# Altium footprint library HTSSOP.PcbLib: 2 footprints
Each footprint in its own frame and in the unit in brackets; x right, y up, seen from the top. Pads: shape width x height; smd on the part's side, far side on the other; paste and mask are expansions set on the pad; w line width, h text height; cw(c..) or ccw(c..) is an arc to the next point about the centre after c.
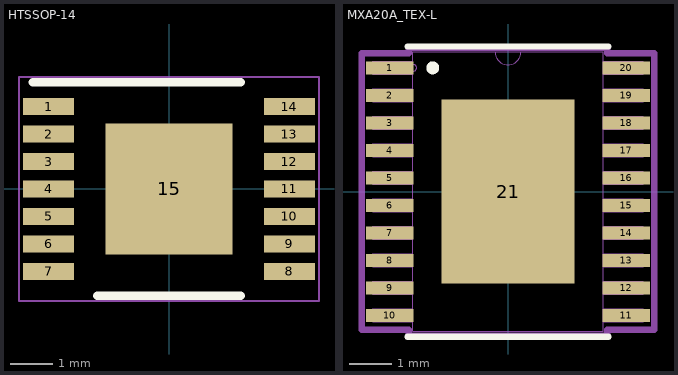
[diagram p0: the footprints below, top view; thin cyan lines are the x and y axes]

## HTSSOP-14 [mm]
pads (15):
  rect 1.2x0.4 smd paste+0 mask+0.051: 1(-2.85,1.95) 2(-2.85,1.3) 3(-2.85,0.65) 4(-2.85,0) 5(-2.85,-0.65) 6(-2.85,-1.3) 7(-2.85,-1.95) 8(2.85,-1.95) 9(2.85,-1.3) 10(2.85,-0.65) 11(2.85,0) 12(2.85,0.65) 13(2.85,1.3) 14(2.85,1.95)
  rect 3x3.1 smd paste+0 mask+0.051: 15(0,0)
Top Overlay:
  lines w0.2: -3.225,2.525 1.7,2.525 ; -1.7,-2.525 1.7,-2.525
Mechanical 15:
  lines w0.05: -3.55,-2.65 -3.55,2.65 3.55,2.65 3.55,-2.65 -3.55,-2.65
  lines w0.1: -0.5,0 0.5,0 ; 0,-0.5 0,0.5
3D body: height 0.25, standoff 0, extent 0,0 0.254,0.254
3D body "HTSSOP-14.stp": height 1, standoff 0, extent -3.21,-2.5 3.211,2.5

## MXA20A_TEX-L [mil]
pads (21):
  rect 44x12 smd: 1(-110,115.16) 2(-110,89.57) 3(-110,63.98) 4(-110,38.39) 5(-110,12.8) 6(-110,-12.8) 7(-110,-38.39) 8(-110,-63.98) 9(-110,-89.57) 10(-110,-115.16) 11(110,-115.16) 12(110,-89.57) 13(110,-63.98) 14(110,-38.39) 15(110,-12.8) 16(110,12.8) 17(110,38.39) 18(110,63.98) 19(110,89.57) 20(110,115.16)
  rect 124x171 smd: 21(0,0)
Top Overlay:
  circle w6: c-70,115.16 r3
  lines w6: -93.5,-135 93.5,-135 ; -93.5,135 93.5,135
Mechanical 13:
  circle w0: c-88,115.16 r3
  lines w0: -12,130 ccw(c0,130) 12,130
  lines w1: -126,-121.16 -88.5,-121.16 -88.5,-109.16 -126,-109.16 -126,-121.16 ; -126,-95.57 -88.5,-95.57 -88.5,-83.57 -126,-83.57 -126,-95.57 ; -126,-69.98 -88.5,-69.98 -88.5,-57.98 -126,-57.98 -126,-69.98 ; -126,-44.39 -88.5,-44.39 -88.5,-32.39 -126,-32.39 -126,-44.39 ; -126,-18.8 -88.5,-18.8 -88.5,-6.8 -126,-6.8 -126,-18.8 ; -126,6.8 -88.5,6.8 -88.5,18.8 -126,18.8 -126,6.8 ; -126,32.39 -88.5,32.39 -88.5,44.39 -126,44.39 -126,32.39 ; -126,57.98 -88.5,57.98 -88.5,69.98 -126,69.98 -126,57.98 ; -126,83.57 -88.5,83.57 -88.5,95.57 -126,95.57 -126,83.57 ; -126,109.16 -88.5,109.16 -88.5,121.16 -126,121.16 -126,109.16 ; -88.5,-130 -88.5,130 88.5,130 88.5,-130 -88.5,-130 ; 88.5,-121.16 126,-121.16 126,-109.16 88.5,-109.16 88.5,-121.16 ; 88.5,-95.57 126,-95.57 126,-83.57 88.5,-83.57 88.5,-95.57 ; 88.5,-69.98 126,-69.98 126,-57.98 88.5,-57.98 88.5,-69.98 ; 88.5,-44.39 126,-44.39 126,-32.39 88.5,-32.39 88.5,-44.39 ; 88.5,-18.8 126,-18.8 126,-6.8 88.5,-6.8 88.5,-18.8 ; 88.5,6.8 126,6.8 126,18.8 88.5,18.8 88.5,6.8 ; 88.5,32.39 126,32.39 126,44.39 88.5,44.39 88.5,32.39 ; 88.5,57.98 126,57.98 126,69.98 88.5,69.98 88.5,57.98 ; 88.5,83.57 126,83.57 126,95.57 88.5,95.57 88.5,83.57 ; 88.5,109.16 126,109.16 126,121.16 88.5,121.16 88.5,109.16
Mechanical 15:
  lines w6: -136,-128.75 -92.5,-128.75 -92.5,-134 92.5,-134 92.5,-128.75 136,-128.75 136,128.75 92.5,128.75 92.5,134 -92.5,134 -92.5,128.75 -136,128.75 -136,-128.75
3D body "MXA20A_TEX.step": height 43.11, standoff 0, extent -125.98,-130 125.98,130